# Altium integrated library Maxim Digital Potentiometers.IntLib: 1045 symbols (part 21 of 42)
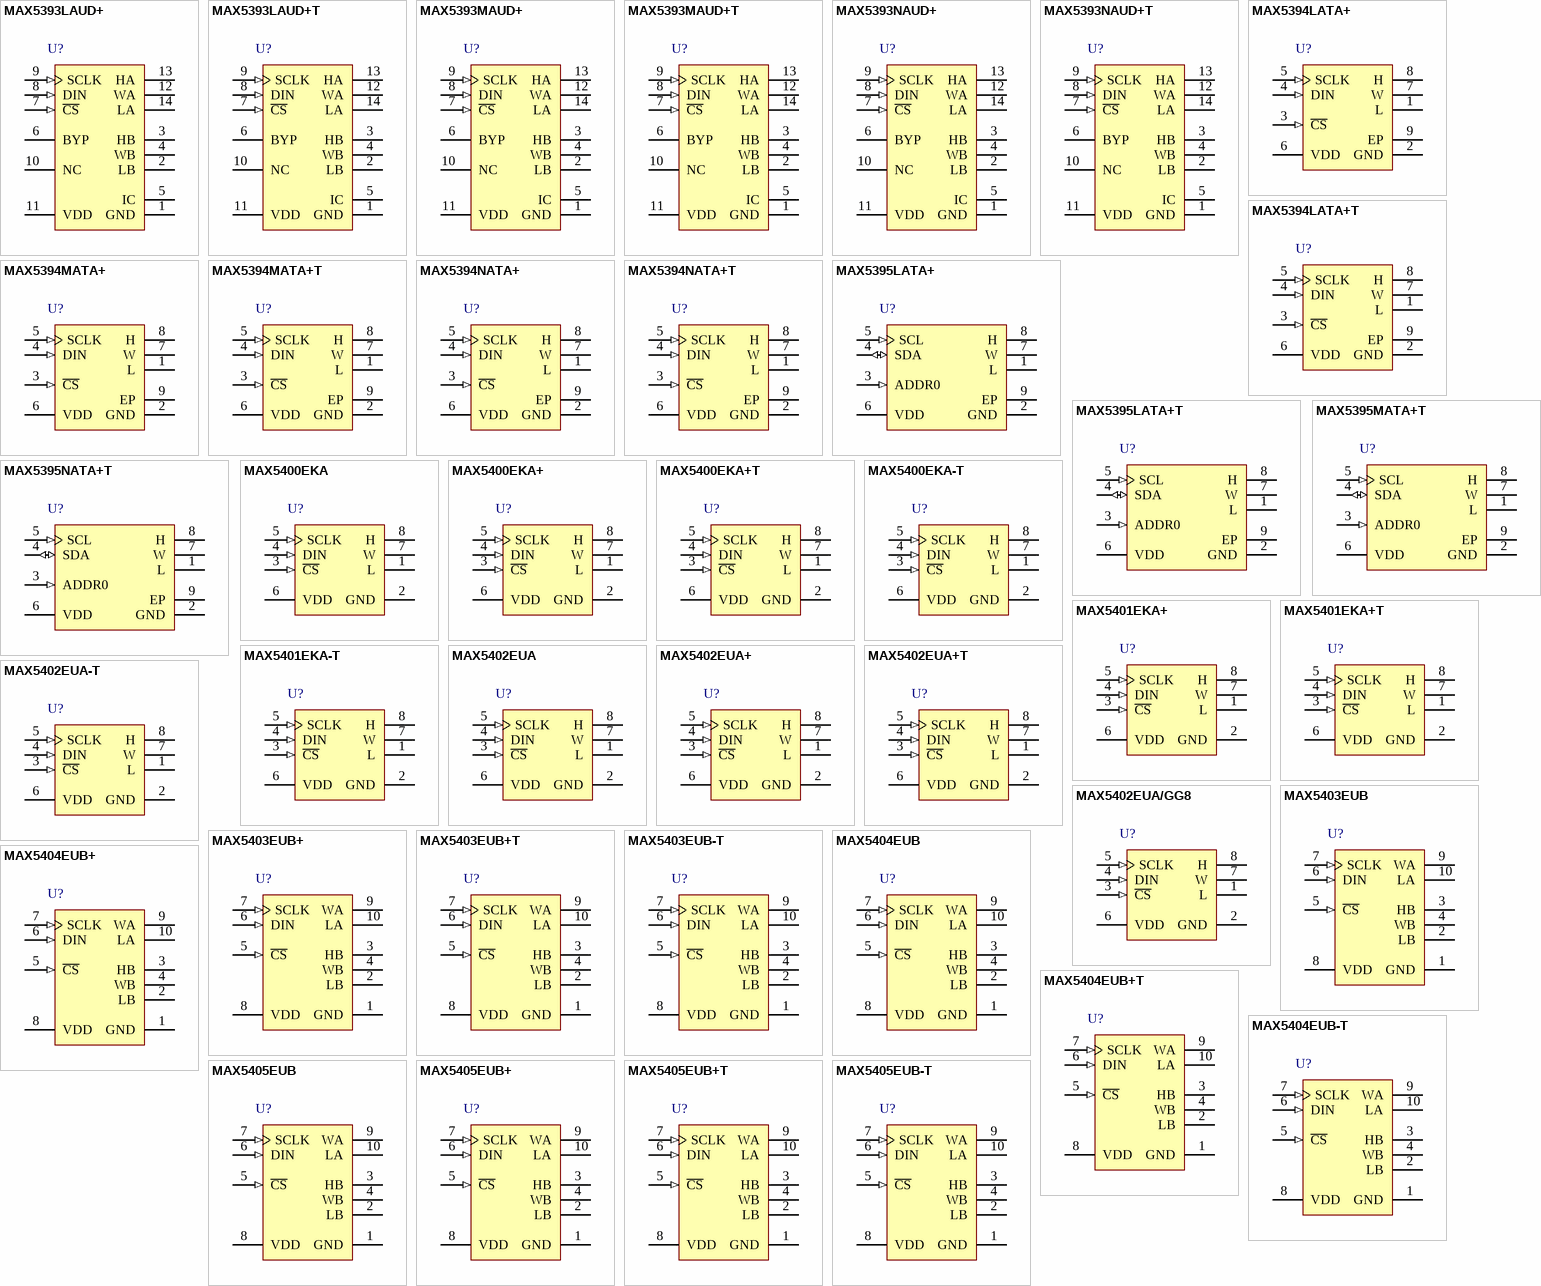
[diagram p49: symbols MAX5393LAUD+ to MAX5405EUB-T]

## MAX5393NAUD+T
designator U?
Dual, Low-Voltage Digital Potentiometer with 3-Wire Serial SPI Control Interface, Volatile, Linear Taper, 256 Steps, -40 to 125 degC, 14-pin TSSOP (U14+1), Pb-Free, Tape and Reel; PartNumber: MAX5393NAUD+T; DatasheetVersion: Rev. 2; PackageVersion: Rev. L, 07/2010; PackageReference: U14+1; PackageDescription: 14-Pin Thin Shrink Small-Outline Package (U14+1), Body 5 x 4.4 mm, Pitch 0.65 mm; Supplier 1: Digi-Key; Supplier Part Number 1: MAX5393NAUD+T-ND; Supplier 2: Mouser; Supplier Part Number 2: 700-MAX5393NAUD+T; Applications: Low-Voltage Battery Applications, Portable Consumer; Control Interface: 3-Wire Serial SPI; Mounting Technology: Surface Mount; Code_JEDEC: MO-153; ComponentLink1Description: Manufacturer URL; ComponentLink1URL: http://www.maximintegrated.com/; ComponentLink2Description: Datasheet; ComponentLink2URL: http://datasheets.maximintegrated.com/en/ds/MAX5391-MAX5393.pdf; ComponentLink3Description: Package Specification; ComponentLink3URL: http://pdfserv.maximintegrated.com/package_dwgs/21-0066.PDF
footprint MAXM-U14+1_N (SOP, 14-Leads, Body 5x4.4mm, Pitch 0.65mm, IPC Medium Density)
footprint MAXM-U14+1_L (SOP, 14-Leads, Body 5x4.4mm, Pitch 0.65mm, IPC High Density)
footprint MAXM-U14+1_M (SOP, 14-Leads, Body 5x4.4mm, Pitch 0.65mm, IPC Low Density)
pins: 1 GND (power) "Ground", 2 LB "Resistor B Low Terminal. The voltage at LB can be higher or lower than the voltage at HB. Current can flow into or out of LB.", 3 HB "Resistor B High Terminal. The voltage at HB can be higher or lower than the voltage at LB. Current can flow into or out of HB.", 4 WB "Resistor B Wiper Terminal", 5 IC (power) "Internally Connected. Connect to GND.", 6 BYP "Internal Power-Supply Bypass. For additional charge-pump filtering, bypass to GND with a capacitor close to the device.", 7 ~{CS} (in) "Active-Low Chip-Select Input", 8 DIN (in) "Serial-Interface Data Input", 9 SCLK (in) "Serial-Interface Clock Input", 10 NC "No Connection. Not internally connected.", 11 VDD (power) "Power-Supply Input. Bypass VDD to GND with a 0.1uF capacitor close to the device.", 12 WA "Resistor A Wiper Terminal", 13 HA "Resistor A High Terminal. The voltage at HA can be higher or lower than the voltage at LA. Current can flow into or out of HA.", 14 LA "Resistor A Low Terminal. The voltage at LA can be higher or lower than the voltage at HA. Current can flow into or out of LA."

## MAX5394LATA+
designator U?
Single, Low-Voltage Digital Potentiometer with 3-Wire Serial SPI Control Interface, Volatile, Linear Taper, 256 Steps, -40 to 125 degC, 8-pin TDFN-EP (T822+2), Pb-Free; PartNumber: MAX5394LATA+; DatasheetVersion: Rev. 1; PackageVersion: Rev. G, 03/2012; PackageReference: T822+2; PackageDescription: 8-Pin Plastic Very Very Thin Dual Flatpack No Leads, Exposed Pad (T822+2), Body 2 x 2 mm, Pitch 0.5 mm; Supplier 1: Mouser; Supplier Part Number 1: N/A; Applications: Low-Voltage Battery Applications; Control Interface: 3-Wire Serial SPI; Mounting Technology: Surface Mount; Code_JEDEC: MO229; ComponentLink1Description: Manufacturer URL; ComponentLink1URL: http://www.maximintegrated.com/; ComponentLink2Description: Datasheet; ComponentLink2URL: http://datasheets.maximintegrated.com/en/ds/MAX5394.pdf; ComponentLink3Description: Package Specification; ComponentLink3URL: http://pdfserv.maximintegrated.com/package_dwgs/21-0168.PDF
footprint MAXM-T822+2_N (SON, 8-Leads, Body 2x2mm, Pitch 0.5mm, Thermal Pad 0.8X1.38mm, IPC Medium Density)
footprint MAXM-T822+2_L (SON, 8-Leads, Body 2x2mm, Pitch 0.5mm, Thermal Pad 0.8X1.38mm, IPC High Density)
footprint MAXM-T822+2_M (SON, 8-Leads, Body 2x2mm, Pitch 0.5mm, Thermal Pad 0.8X1.38mm, IPC Low Density)
pins: 1 L "Low Terminal. The voltage at L can be greater than or less than the voltage at H. Current can flow into or out of L.", 2 GND (power) "Ground", 3 ~{CS} (in) "Active-Low Chip-Select Digital Input", 4 DIN (in) "Serial-Interface Data Input", 5 SCLK (in) "Serial-Interface Clock Input", 6 VDD (power) "Power Supply", 7 W "Wiper Terminal", 8 H "High Terminal. The voltage at H can be greater than or less than the voltage at L. Current can flow into or out of H.", 9 EP (power) "Exposed Pad. Internally connected to GND. Connected to ground."

## MAX5394LATA+T
designator U?
Single Low-Voltage Digital Potentiometer with 3-Wire Serial SPI Control Interface, Volatile, Linear Taper, 256 Steps, -40 to 125 degC, 8-pin TDFN-EP (T822+2), Pb-Free, Tape and Reel; PartNumber: MAX5394LATA+T; DatasheetVersion: Rev. 1; PackageVersion: Rev. G, 03/2012; PackageReference: T822+2; PackageDescription: 8-Pin Plastic Very Very Thin Dual Flatpack No Leads, Exposed Pad (T822+2), Body 2 x 2 mm, Pitch 0.5 mm; Supplier 1: Digi-Key; Supplier Part Number 1: MAX5394LATA+T-ND; Supplier 2: Mouser; Supplier Part Number 2: 700-MAX5394LATA+T; Applications: Low-Voltage Battery Applications; Control Interface: 3-Wire Serial SPI; Mounting Technology: Surface Mount; Code_JEDEC: MO229; ComponentLink1Description: Manufacturer URL; ComponentLink1URL: http://www.maximintegrated.com/; ComponentLink2Description: Datasheet; ComponentLink2URL: http://datasheets.maximintegrated.com/en/ds/MAX5394.pdf; ComponentLink3Description: Package Specification; ComponentLink3URL: http://pdfserv.maximintegrated.com/package_dwgs/21-0168.PDF
footprint MAXM-T822+2_N (SON, 8-Leads, Body 2x2mm, Pitch 0.5mm, Thermal Pad 0.8X1.38mm, IPC Medium Density)
footprint MAXM-T822+2_L (SON, 8-Leads, Body 2x2mm, Pitch 0.5mm, Thermal Pad 0.8X1.38mm, IPC High Density)
footprint MAXM-T822+2_M (SON, 8-Leads, Body 2x2mm, Pitch 0.5mm, Thermal Pad 0.8X1.38mm, IPC Low Density)
pins: 1 L "Low Terminal. The voltage at L can be greater than or less than the voltage at H. Current can flow into or out of L.", 2 GND (power) "Ground", 3 ~{CS} (in) "Active-Low Chip-Select Digital Input", 4 DIN (in) "Serial-Interface Data Input", 5 SCLK (in) "Serial-Interface Clock Input", 6 VDD (power) "Power Supply", 7 W "Wiper Terminal", 8 H "High Terminal. The voltage at H can be greater than or less than the voltage at L. Current can flow into or out of H.", 9 EP (power) "Exposed Pad. Internally connected to GND. Connected to ground."

## MAX5394MATA+
designator U?
Single Low-Voltage Digital Potentiometer with 3-Wire Serial SPI Control Interface, Volatile, Linear Taper, 256 Steps, -40 to 125 degC, 8-pin TDFN-EP (T822+2), Pb-Free; PartNumber: MAX5394MATA+; DatasheetVersion: Rev. 1; PackageVersion: Rev. G, 03/2012; PackageReference: T822+2; PackageDescription: 8-Pin Plastic Very Very Thin Dual Flatpack No Leads, Exposed Pad (T822+2), Body 2 x 2 mm, Pitch 0.5 mm; Supplier 1: Mouser; Supplier Part Number 1: N/A; Applications: Low-Voltage Battery Applications; Control Interface: 3-Wire Serial SPI; Mounting Technology: Surface Mount; Code_JEDEC: MO229; ComponentLink1Description: Manufacturer URL; ComponentLink1URL: http://www.maximintegrated.com/; ComponentLink2Description: Datasheet; ComponentLink2URL: http://datasheets.maximintegrated.com/en/ds/MAX5394.pdf; ComponentLink3Description: Package Specification; ComponentLink3URL: http://pdfserv.maximintegrated.com/package_dwgs/21-0168.PDF
footprint MAXM-T822+2_N (SON, 8-Leads, Body 2x2mm, Pitch 0.5mm, Thermal Pad 0.8X1.38mm, IPC Medium Density)
footprint MAXM-T822+2_L (SON, 8-Leads, Body 2x2mm, Pitch 0.5mm, Thermal Pad 0.8X1.38mm, IPC High Density)
footprint MAXM-T822+2_M (SON, 8-Leads, Body 2x2mm, Pitch 0.5mm, Thermal Pad 0.8X1.38mm, IPC Low Density)
pins: 1 L "Low Terminal. The voltage at L can be greater than or less than the voltage at H. Current can flow into or out of L.", 2 GND (power) "Ground", 3 ~{CS} (in) "Active-Low Chip-Select Digital Input", 4 DIN (in) "Serial-Interface Data Input", 5 SCLK (in) "Serial-Interface Clock Input", 6 VDD (power) "Power Supply", 7 W "Wiper Terminal", 8 H "High Terminal. The voltage at H can be greater than or less than the voltage at L. Current can flow into or out of H.", 9 EP (power) "Exposed Pad. Internally connected to GND. Connected to ground."

## MAX5394MATA+T
designator U?
Single Low-Voltage Digital Potentiometer with 3-Wire Serial SPI Control Interface, Volatile, Linear Taper, 256 Steps, -40 to 125 degC, 8-pin TDFN-EP (T822+2), Pb-Free, Tape and Reel; PartNumber: MAX5394MATA+T; DatasheetVersion: Rev. 1; PackageVersion: Rev. G, 03/2012; PackageReference: T822+2; PackageDescription: 8-Pin Plastic Very Very Thin Dual Flatpack No Leads, Exposed Pad (T822+2), Body 2 x 2 mm, Pitch 0.5 mm; Supplier 1: Digi-Key; Supplier Part Number 1: MAX5394MATA+T-ND; Supplier 2: Mouser; Supplier Part Number 2: 700-MAX5394MATA+T; Applications: Low-Voltage Battery Applications; Control Interface: 3-Wire Serial SPI; Mounting Technology: Surface Mount; Code_JEDEC: MO229; ComponentLink1Description: Manufacturer URL; ComponentLink1URL: http://www.maximintegrated.com/; ComponentLink2Description: Datasheet; ComponentLink2URL: http://datasheets.maximintegrated.com/en/ds/MAX5394.pdf; ComponentLink3Description: Package Specification; ComponentLink3URL: http://pdfserv.maximintegrated.com/package_dwgs/21-0168.PDF
footprint MAXM-T822+2_N (SON, 8-Leads, Body 2x2mm, Pitch 0.5mm, Thermal Pad 0.8X1.38mm, IPC Medium Density)
footprint MAXM-T822+2_L (SON, 8-Leads, Body 2x2mm, Pitch 0.5mm, Thermal Pad 0.8X1.38mm, IPC High Density)
footprint MAXM-T822+2_M (SON, 8-Leads, Body 2x2mm, Pitch 0.5mm, Thermal Pad 0.8X1.38mm, IPC Low Density)
pins: 1 L "Low Terminal. The voltage at L can be greater than or less than the voltage at H. Current can flow into or out of L.", 2 GND (power) "Ground", 3 ~{CS} (in) "Active-Low Chip-Select Digital Input", 4 DIN (in) "Serial-Interface Data Input", 5 SCLK (in) "Serial-Interface Clock Input", 6 VDD (power) "Power Supply", 7 W "Wiper Terminal", 8 H "High Terminal. The voltage at H can be greater than or less than the voltage at L. Current can flow into or out of H.", 9 EP (power) "Exposed Pad. Internally connected to GND. Connected to ground."

## MAX5394NATA+
designator U?
Single Low-Voltage Digital Potentiometer with 3-Wire Serial SPI Control Interface, Volatile, Linear Taper, 256 Steps, -40 to 125 degC, 8-pin TDFN-EP (T822+2), Pb-Free; PartNumber: MAX5394NATA+; DatasheetVersion: Rev. 1; PackageVersion: Rev. G, 03/2012; PackageReference: T822+2; PackageDescription: 8-Pin Plastic Very Very Thin Dual Flatpack No Leads, Exposed Pad (T822+2), Body 2 x 2 mm, Pitch 0.5 mm; Supplier 1: Mouser; Supplier Part Number 1: N/A; Applications: Low-Voltage Battery Applications; Control Interface: 3-Wire Serial SPI; Mounting Technology: Surface Mount; Code_JEDEC: MO229; ComponentLink1Description: Manufacturer URL; ComponentLink1URL: http://www.maximintegrated.com/; ComponentLink2Description: Datasheet; ComponentLink2URL: http://datasheets.maximintegrated.com/en/ds/MAX5394.pdf; ComponentLink3Description: Package Specification; ComponentLink3URL: http://pdfserv.maximintegrated.com/package_dwgs/21-0168.PDF
footprint MAXM-T822+2_N (SON, 8-Leads, Body 2x2mm, Pitch 0.5mm, Thermal Pad 0.8X1.38mm, IPC Medium Density)
footprint MAXM-T822+2_L (SON, 8-Leads, Body 2x2mm, Pitch 0.5mm, Thermal Pad 0.8X1.38mm, IPC High Density)
footprint MAXM-T822+2_M (SON, 8-Leads, Body 2x2mm, Pitch 0.5mm, Thermal Pad 0.8X1.38mm, IPC Low Density)
pins: 1 L "Low Terminal. The voltage at L can be greater than or less than the voltage at H. Current can flow into or out of L.", 2 GND (power) "Ground", 3 ~{CS} (in) "Active-Low Chip-Select Digital Input", 4 DIN (in) "Serial-Interface Data Input", 5 SCLK (in) "Serial-Interface Clock Input", 6 VDD (power) "Power Supply", 7 W "Wiper Terminal", 8 H "High Terminal. The voltage at H can be greater than or less than the voltage at L. Current can flow into or out of H.", 9 EP (power) "Exposed Pad. Internally connected to GND. Connected to ground."

## MAX5394NATA+T
designator U?
Single Low-Voltage Digital Potentiometer with 3-Wire Serial SPI Control Interface, Volatile, Linear Taper, 256 Steps, -40 to 125 degC, 8-pin TDFN-EP (T822+2), Pb-Free, Tape and Reel; PartNumber: MAX5394NATA+T; DatasheetVersion: Rev. 1; PackageVersion: Rev. G, 03/2012; PackageReference: T822+2; PackageDescription: 8-Pin Plastic Very Very Thin Dual Flatpack No Leads, Exposed Pad (T822+2), Body 2 x 2 mm, Pitch 0.5 mm; Supplier 1: Digi-Key; Supplier Part Number 1: MAX5394NATA+T-ND; Supplier 2: Mouser; Supplier Part Number 2: 700-MAX5394NATA+T; Applications: Low-Voltage Battery Applications; Control Interface: 3-Wire Serial SPI; Mounting Technology: Surface Mount; Code_JEDEC: MO229; ComponentLink1Description: Manufacturer URL; ComponentLink1URL: http://www.maximintegrated.com/; ComponentLink2Description: Datasheet; ComponentLink2URL: http://datasheets.maximintegrated.com/en/ds/MAX5394.pdf; ComponentLink3Description: Package Specification; ComponentLink3URL: http://pdfserv.maximintegrated.com/package_dwgs/21-0168.PDF
footprint MAXM-T822+2_N (SON, 8-Leads, Body 2x2mm, Pitch 0.5mm, Thermal Pad 0.8X1.38mm, IPC Medium Density)
footprint MAXM-T822+2_L (SON, 8-Leads, Body 2x2mm, Pitch 0.5mm, Thermal Pad 0.8X1.38mm, IPC High Density)
footprint MAXM-T822+2_M (SON, 8-Leads, Body 2x2mm, Pitch 0.5mm, Thermal Pad 0.8X1.38mm, IPC Low Density)
pins: 1 L "Low Terminal. The voltage at L can be greater than or less than the voltage at H. Current can flow into or out of L.", 2 GND (power) "Ground", 3 ~{CS} (in) "Active-Low Chip-Select Digital Input", 4 DIN (in) "Serial-Interface Data Input", 5 SCLK (in) "Serial-Interface Clock Input", 6 VDD (power) "Power Supply", 7 W "Wiper Terminal", 8 H "High Terminal. The voltage at H can be greater than or less than the voltage at L. Current can flow into or out of H.", 9 EP (power) "Exposed Pad. Internally connected to GND. Connected to ground."

## MAX5395LATA+
designator U?
Single, Low-Voltage Digital Potentiometer with I2C Control Interface, Volatile, Linear Taper, 256 Steps, -40 to 125 degC, 8-pin TDFN-EP (T822+2), Pb-Free; PartNumber: MAX5395LATA+; DatasheetVersion: Rev. 1; PackageVersion: Rev. G, 03/2012; PackageReference: T822+2; PackageDescription: 8-Pin Plastic Very Very Thin Dual Flatpack No Leads, Exposed Pad (T822+2), Body 2 x 2 mm, Pitch 0.5 mm; Supplier 1: Mouser; Supplier Part Number 1: N/A; Applications: Low-Voltage Battery Applications; Control Interface: I2C; Mounting Technology: Surface Mount; Code_JEDEC: MO229; ComponentLink1Description: Manufacturer URL; ComponentLink1URL: http://www.maximintegrated.com/; ComponentLink2Description: Datasheet; ComponentLink2URL: http://datasheets.maximintegrated.com/en/ds/MAX5395.pdf; ComponentLink3Description: Package Specification; ComponentLink3URL: http://pdfserv.maximintegrated.com/package_dwgs/21-0168.PDF
footprint MAXM-T822+2_N (SON, 8-Leads, Body 2x2mm, Pitch 0.5mm, Thermal Pad 0.8X1.38mm, IPC Medium Density)
footprint MAXM-T822+2_L (SON, 8-Leads, Body 2x2mm, Pitch 0.5mm, Thermal Pad 0.8X1.38mm, IPC High Density)
footprint MAXM-T822+2_M (SON, 8-Leads, Body 2x2mm, Pitch 0.5mm, Thermal Pad 0.8X1.38mm, IPC Low Density)
pins: 1 L "Low Terminal. The voltage at L can be greater than or less than the voltage at H. Current can flow into or out of L.", 2 GND (power) "Ground", 3 ADDR0 (in) "Address Input 0. Connected to VDD, GND, or open.", 4 SDA (io) "I2C Serial Data Input", 5 SCL (in) "I2C Clock Input", 6 VDD (power) "Power Supply", 7 W "Wiper Terminal", 8 H "High Terminal. The voltage at H can be greater than or less than the voltage at L. Current can flow into or out of H.", 9 EP (power) "Exposed Pad. Internally connected to GND. Connect to ground."

## MAX5395LATA+T
designator U?
Single, Low-Voltage Digital Potentiometer with I2C Control Interface, Volatile, Linear Taper, 256 Steps, -40 to 125 degC, 8-pin TDFN-EP (T822+2), Pb-Free, Tape and Reel; PartNumber: MAX5395LATA+T; DatasheetVersion: Rev. 1; PackageVersion: Rev. G, 03/2012; PackageReference: T822+2; PackageDescription: 8-Pin Plastic Very Very Thin Dual Flatpack No Leads, Exposed Pad (T822+2), Body 2 x 2 mm, Pitch 0.5 mm; Supplier 1: Digi-Key; Supplier Part Number 1: MAX5395LATA+T-ND; Supplier 2: Mouser; Supplier Part Number 2: 700-MAX5395LATA+T; Applications: Low-Voltage Battery Applications; Control Interface: I2C; Mounting Technology: Surface Mount; Code_JEDEC: MO229; ComponentLink1Description: Manufacturer URL; ComponentLink1URL: http://www.maximintegrated.com/; ComponentLink2Description: Datasheet; ComponentLink2URL: http://datasheets.maximintegrated.com/en/ds/MAX5395.pdf; ComponentLink3Description: Package Specification; ComponentLink3URL: http://pdfserv.maximintegrated.com/package_dwgs/21-0168.PDF
footprint MAXM-T822+2_N (SON, 8-Leads, Body 2x2mm, Pitch 0.5mm, Thermal Pad 0.8X1.38mm, IPC Medium Density)
footprint MAXM-T822+2_L (SON, 8-Leads, Body 2x2mm, Pitch 0.5mm, Thermal Pad 0.8X1.38mm, IPC High Density)
footprint MAXM-T822+2_M (SON, 8-Leads, Body 2x2mm, Pitch 0.5mm, Thermal Pad 0.8X1.38mm, IPC Low Density)
pins: 1 L "Low Terminal. The voltage at L can be greater than or less than the voltage at H. Current can flow into or out of L.", 2 GND (power) "Ground", 3 ADDR0 (in) "Address Input 0. Connected to VDD, GND, or open.", 4 SDA (io) "I2C Serial Data Input", 5 SCL (in) "I2C Clock Input", 6 VDD (power) "Power Supply", 7 W "Wiper Terminal", 8 H "High Terminal. The voltage at H can be greater than or less than the voltage at L. Current can flow into or out of H.", 9 EP (power) "Exposed Pad. Internally connected to GND. Connect to ground."

## MAX5395MATA+T
designator U?
Single, Low-Voltage Digital Potentiometer with I2C Control Interface, Volatile, Linear Taper, 256 Steps, -40 to 125 degC, 8-pin TDFN-EP (T822+2), Pb-Free, Tape and Reel; PartNumber: MAX5395MATA+T; DatasheetVersion: Rev. 1; PackageVersion: Rev. G, 03/2012; PackageReference: T822+2; PackageDescription: 8-Pin Plastic Very Very Thin Dual Flatpack No Leads, Exposed Pad (T822+2), Body 2 x 2 mm, Pitch 0.5 mm; Supplier 1: Digi-Key; Supplier Part Number 1: MAX5395MATA+T-ND; Supplier 2: Mouser; Supplier Part Number 2: 700-MAX5395MATA+T; Applications: Low-Voltage Battery Applications; Control Interface: I2C; Mounting Technology: Surface Mount; Code_JEDEC: MO229; ComponentLink1Description: Manufacturer URL; ComponentLink1URL: http://www.maximintegrated.com/; ComponentLink2Description: Datasheet; ComponentLink2URL: http://datasheets.maximintegrated.com/en/ds/MAX5395.pdf; ComponentLink3Description: Package Specification; ComponentLink3URL: http://pdfserv.maximintegrated.com/package_dwgs/21-0168.PDF
footprint MAXM-T822+2_N (SON, 8-Leads, Body 2x2mm, Pitch 0.5mm, Thermal Pad 0.8X1.38mm, IPC Medium Density)
footprint MAXM-T822+2_L (SON, 8-Leads, Body 2x2mm, Pitch 0.5mm, Thermal Pad 0.8X1.38mm, IPC High Density)
footprint MAXM-T822+2_M (SON, 8-Leads, Body 2x2mm, Pitch 0.5mm, Thermal Pad 0.8X1.38mm, IPC Low Density)
pins: 1 L "Low Terminal. The voltage at L can be greater than or less than the voltage at H. Current can flow into or out of L.", 2 GND (power) "Ground", 3 ADDR0 (in) "Address Input 0. Connected to VDD, GND, or open.", 4 SDA (io) "I2C Serial Data Input", 5 SCL (in) "I2C Clock Input", 6 VDD (power) "Power Supply", 7 W "Wiper Terminal", 8 H "High Terminal. The voltage at H can be greater than or less than the voltage at L. Current can flow into or out of H.", 9 EP (power) "Exposed Pad. Internally connected to GND. Connect to ground."

## MAX5395NATA+T
designator U?
Single, Low-Voltage Digital Potentiometer with I2C Control Interface, Volatile, Linear Taper, 256 Steps, -40 to 125 degC, 8-pin TDFN-EP (T822+2), Pb-Free, Tape and Reel; PartNumber: MAX5395NATA+T; DatasheetVersion: Rev. 1; PackageVersion: Rev. G, 03/2012; PackageReference: T822+2; PackageDescription: 8-Pin Plastic Very Very Thin Dual Flatpack No Leads, Exposed Pad (T822+2), Body 2 x 2 mm, Pitch 0.5 mm; Supplier 1: Digi-Key; Supplier Part Number 1: MAX5395NATA+T-ND; Supplier 2: Mouser; Supplier Part Number 2: 700-MAX5395NATA+T; Applications: Low-Voltage Battery Applications; Control Interface: I2C; Mounting Technology: Surface Mount; Code_JEDEC: MO229; ComponentLink1Description: Manufacturer URL; ComponentLink1URL: http://www.maximintegrated.com/; ComponentLink2Description: Datasheet; ComponentLink2URL: http://datasheets.maximintegrated.com/en/ds/MAX5395.pdf; ComponentLink3Description: Package Specification; ComponentLink3URL: http://pdfserv.maximintegrated.com/package_dwgs/21-0168.PDF
footprint MAXM-T822+2_N (SON, 8-Leads, Body 2x2mm, Pitch 0.5mm, Thermal Pad 0.8X1.38mm, IPC Medium Density)
footprint MAXM-T822+2_L (SON, 8-Leads, Body 2x2mm, Pitch 0.5mm, Thermal Pad 0.8X1.38mm, IPC High Density)
footprint MAXM-T822+2_M (SON, 8-Leads, Body 2x2mm, Pitch 0.5mm, Thermal Pad 0.8X1.38mm, IPC Low Density)
pins: 1 L "Low Terminal. The voltage at L can be greater than or less than the voltage at H. Current can flow into or out of L.", 2 GND (power) "Ground", 3 ADDR0 (in) "Address Input 0. Connected to VDD, GND, or open.", 4 SDA (io) "I2C Serial Data Input", 5 SCL (in) "I2C Clock Input", 6 VDD (power) "Power Supply", 7 W "Wiper Terminal", 8 H "High Terminal. The voltage at H can be greater than or less than the voltage at L. Current can flow into or out of H.", 9 EP (power) "Exposed Pad. Internally connected to GND. Connect to ground."

## MAX5400EKA
designator U?
SOT-PoT, Low-Drift Digital Potentiometers in SOT23 with 3-Wire Serial Control Interface, Volatile, Linear Taper, 256 Steps, -40 to 85 degC, 8-pin SOT (K8SN-1); PartNumber: MAX5400EKA; DatasheetVersion: Rev. 0; PackageVersion: Rev. J, 10/2009; PackageReference: K8SN-1; PackageDescription: 8-Pin Small-Outline Transistor Package (K8SN-1), Body 2.9 x 1.625 mm, Pitch 0.65 mm; Supplier 1: Mouser; Supplier Part Number 1: N/A; Control Interface: 3-Wire Serial; Mounting Technology: Surface Mount; Code_JEDEC: MO178; ComponentLink1Description: Manufacturer URL; ComponentLink1URL: http://www.maximintegrated.com/; ComponentLink2Description: Datasheet; ComponentLink2URL: http://datasheets.maximintegrated.com/en/ds/MAX5400-MAX5401.pdf; ComponentLink3Description: Package Specification; ComponentLink3URL: http://pdfserv.maximintegrated.com/package_dwgs/21-0078.PDF
footprint MAXM-K8SN-1_V (SOT23, 8-Leads, Body 2.9x1.625mm, Pitch 0.65mm)
pins: 1 L "Low Terminal of Resistor", 2 GND (power) "Ground", 3 ~{CS} (in) "Chip Select Input", 4 DIN (in) "Serial Data Input", 5 SCLK (in) "Clock Input", 6 VDD (power) "Power Supply. Bypass with a 0.1uF capacitor to GND.", 7 W "Wiper Terminal", 8 H "High Terminal of Resistor"

## MAX5400EKA+
designator U?
SOT-PoT, Low-Drift Digital Potentiometers in SOT23 with 3-Wire Serial Control Interface, Volatile, Linear Taper, 256 Steps, -40 to 85 degC, 8-pin SOT (K8SN+1), Pb-Free; PartNumber: MAX5400EKA+; DatasheetVersion: Rev. 0; PackageVersion: Rev. J, 10/2009; PackageReference: K8SN+1; PackageDescription: 8-Pin Small-Outline Transistor Package (K8SN+1), Body 2.9 x 1.625 mm, Pitch 0.65 mm; Supplier 1: Mouser; Supplier Part Number 1: N/A; Control Interface: 3-Wire Serial; Mounting Technology: Surface Mount; Code_JEDEC: MO178; ComponentLink1Description: Manufacturer URL; ComponentLink1URL: http://www.maximintegrated.com/; ComponentLink2Description: Datasheet; ComponentLink2URL: http://datasheets.maximintegrated.com/en/ds/MAX5400-MAX5401.pdf; ComponentLink3Description: Package Specification; ComponentLink3URL: http://pdfserv.maximintegrated.com/package_dwgs/21-0078.PDF
footprint MAXM-K8SN+1_V (SOT23, 8-Leads, Body 2.9x1.625mm, Pitch 0.65 mm)
pins: 1 L "Low Terminal of Resistor", 2 GND (power) "Ground", 3 ~{CS} (in) "Chip Select Input", 4 DIN (in) "Serial Data Input", 5 SCLK (in) "Clock Input", 6 VDD (power) "Power Supply. Bypass with a 0.1uF capacitor to GND.", 7 W "Wiper Terminal", 8 H "High Terminal of Resistor"

## MAX5400EKA+T
designator U?
SOT-PoT, Low-Drift Digital Potentiometers in SOT23 with 3-Wire Serial Control Interface, Volatile, Linear Taper, 256 Steps, -40 to 85 degC, 8-pin SOT (K8SN+1), Pb-Free, Tape and Reel; PartNumber: MAX5400EKA+T; DatasheetVersion: Rev. 0; PackageVersion: Rev. J, 10/2009; PackageReference: K8SN+1; PackageDescription: 8-Pin Small-Outline Transistor Package (K8SN+1), Body 2.9 x 1.625 mm, Pitch 0.65 mm; Supplier 1: Digi-Key; Supplier Part Number 1: MAX5400EKA+TTR-ND; Supplier 2: Digi-Key; Supplier Part Number 2: MAX5400EKA+TCT-ND; Supplier 3: Digi-Key; Supplier Part Number 3: MAX5400EKA+TDKR-ND; Supplier 4: Farnell; Supplier Part Number 4: 2071867; Supplier 5: Newark; Supplier Part Number 5: 68K9443; Supplier 6: Mouser; Supplier Part Number 6: 700-MAX5400EKAT; Control Interface: 3-Wire Serial; Mounting Technology: Surface Mount; Code_JEDEC: MO178; ComponentLink1Description: Manufacturer URL; ComponentLink1URL: http://www.maximintegrated.com/; ComponentLink2Description: Datasheet; ComponentLink2URL: http://datasheets.maximintegrated.com/en/ds/MAX5400-MAX5401.pdf; ComponentLink3Description: Package Specification; ComponentLink3URL: http://pdfserv.maximintegrated.com/package_dwgs/21-0078.PDF
footprint MAXM-K8SN+1_V (SOT23, 8-Leads, Body 2.9x1.625mm, Pitch 0.65 mm)
pins: 1 L "Low Terminal of Resistor", 2 GND (power) "Ground", 3 ~{CS} (in) "Chip Select Input", 4 DIN (in) "Serial Data Input", 5 SCLK (in) "Clock Input", 6 VDD (power) "Power Supply. Bypass with a 0.1uF capacitor to GND.", 7 W "Wiper Terminal", 8 H "High Terminal of Resistor"

## MAX5400EKA-T
designator U?
SOT-PoT, Low-Drift Digital Potentiometers in SOT23 with 3-Wire Serial Control Interface, Volatile, Linear Taper, 256 Steps, -40 to 85 degC, 8-pin SOT (K8SN-1), Tape and Reel; PartNumber: MAX5400EKA-T; DatasheetVersion: Rev. 0; PackageVersion: Rev. J, 10/2009; PackageReference: K8SN-1; PackageDescription: 8-Pin Small-Outline Transistor Package (K8SN-1), Body 2.9 x 1.625 mm, Pitch 0.65 mm; Supplier 1: Mouser; Supplier Part Number 1: N/A; Control Interface: 3-Wire Serial; Mounting Technology: Surface Mount; Code_JEDEC: MO178; ComponentLink1Description: Manufacturer URL; ComponentLink1URL: http://www.maximintegrated.com/; ComponentLink2Description: Datasheet; ComponentLink2URL: http://datasheets.maximintegrated.com/en/ds/MAX5400-MAX5401.pdf; ComponentLink3Description: Package Specification; ComponentLink3URL: http://pdfserv.maximintegrated.com/package_dwgs/21-0078.PDF
footprint MAXM-K8SN-1_V (SOT23, 8-Leads, Body 2.9x1.625mm, Pitch 0.65mm)
pins: 1 L "Low Terminal of Resistor", 2 GND (power) "Ground", 3 ~{CS} (in) "Chip Select Input", 4 DIN (in) "Serial Data Input", 5 SCLK (in) "Clock Input", 6 VDD (power) "Power Supply. Bypass with a 0.1uF capacitor to GND.", 7 W "Wiper Terminal", 8 H "High Terminal of Resistor"

## MAX5401EKA+
designator U?
SOT-PoT, Low-Drift Digital Potentiometers in SOT23 with 3-Wire Serial Control Interface, Volatile, Linear Taper, 256 Steps, -40 to 85 degC, 8-pin SOT (K8SN+1), Pb-Free; PartNumber: MAX5401EKA+; DatasheetVersion: Rev. 0; PackageVersion: Rev. J, 10/2009; PackageReference: K8SN+1; PackageDescription: 8-Pin Small-Outline Transistor Package (K8SN+1), Body 2.9 x 1.625 mm, Pitch 0.65 mm; Supplier 1: Mouser; Supplier Part Number 1: N/A; Control Interface: 3-Wire Serial; Mounting Technology: Surface Mount; Code_JEDEC: MO178; ComponentLink1Description: Manufacturer URL; ComponentLink1URL: http://www.maximintegrated.com/; ComponentLink2Description: Datasheet; ComponentLink2URL: http://datasheets.maximintegrated.com/en/ds/MAX5400-MAX5401.pdf; ComponentLink3Description: Package Specification; ComponentLink3URL: http://pdfserv.maximintegrated.com/package_dwgs/21-0078.PDF
footprint MAXM-K8SN+1_V (SOT23, 8-Leads, Body 2.9x1.625mm, Pitch 0.65 mm)
pins: 1 L "Low Terminal of Resistor", 2 GND (power) "Ground", 3 ~{CS} (in) "Chip Select Input", 4 DIN (in) "Serial Data Input", 5 SCLK (in) "Clock Input", 6 VDD (power) "Power Supply. Bypass with a 0.1uF capacitor to GND.", 7 W "Wiper Terminal", 8 H "High Terminal of Resistor"

## MAX5401EKA+T
designator U?
SOT-PoT, Low-Drift Digital Potentiometers in SOT23 with 3-Wire Serial Control Interface, Volatile, Linear Taper, 256 Steps, -40 to 85 degC, 8-pin SOT (K8SN+1), Pb-Free, Tape and Reel; PartNumber: MAX5401EKA+T; DatasheetVersion: Rev. 0; PackageVersion: Rev. J, 10/2009; PackageReference: K8SN+1; PackageDescription: 8-Pin Small-Outline Transistor Package (K8SN+1), Body 2.9 x 1.625 mm, Pitch 0.65 mm; Supplier 1: Digi-Key; Supplier Part Number 1: MAX5401EKA+TTR-ND; Supplier 2: Digi-Key; Supplier Part Number 2: MAX5401EKA+TCT-ND; Supplier 3: Digi-Key; Supplier Part Number 3: MAX5401EKA+TDKR-ND; Supplier 4: Mouser; Supplier Part Number 4: 700-MAX5401EKAT; Control Interface: 3-Wire Serial; Mounting Technology: Surface Mount; Code_JEDEC: MO178; ComponentLink1Description: Manufacturer URL; ComponentLink1URL: http://www.maximintegrated.com/; ComponentLink2Description: Datasheet; ComponentLink2URL: http://datasheets.maximintegrated.com/en/ds/MAX5400-MAX5401.pdf; ComponentLink3Description: Package Specification; ComponentLink3URL: http://pdfserv.maximintegrated.com/package_dwgs/21-0078.PDF
footprint MAXM-K8SN+1_V (SOT23, 8-Leads, Body 2.9x1.625mm, Pitch 0.65 mm)
pins: 1 L "Low Terminal of Resistor", 2 GND (power) "Ground", 3 ~{CS} (in) "Chip Select Input", 4 DIN (in) "Serial Data Input", 5 SCLK (in) "Clock Input", 6 VDD (power) "Power Supply. Bypass with a 0.1uF capacitor to GND.", 7 W "Wiper Terminal", 8 H "High Terminal of Resistor"

## MAX5401EKA-T
designator U?
SOT-PoT, Low-Drift Digital Potentiometers in SOT23 with 3-Wire Serial Control Interface, Volatile, Linear Taper, 256 Steps, -40 to 85 degC, 8-pin SOT (K8SN-1), Tape and Reel; PartNumber: MAX5401EKA-T; DatasheetVersion: Rev. 0; PackageVersion: Rev. J, 10/2009; PackageReference: K8SN-1; PackageDescription: 8-Pin Small-Outline Transistor Package (K8SN-1), Body 2.9 x 1.625 mm, Pitch 0.65 mm; Supplier 1: Digi-Key; Supplier Part Number 1: MAX5401EKA-TTR-ND; Supplier 2: Digi-Key; Supplier Part Number 2: MAX5401EKA-TCT-ND; Supplier 3: Mouser; Supplier Part Number 3: N/A; Control Interface: 3-Wire Serial; Mounting Technology: Surface Mount; Code_JEDEC: MO178; ComponentLink1Description: Manufacturer URL; ComponentLink1URL: http://www.maximintegrated.com/; ComponentLink2Description: Datasheet; ComponentLink2URL: http://datasheets.maximintegrated.com/en/ds/MAX5400-MAX5401.pdf; ComponentLink3Description: Package Specification; ComponentLink3URL: http://pdfserv.maximintegrated.com/package_dwgs/21-0078.PDF
footprint MAXM-K8SN-1_V (SOT23, 8-Leads, Body 2.9x1.625mm, Pitch 0.65mm)
pins: 1 L "Low Terminal of Resistor", 2 GND (power) "Ground", 3 ~{CS} (in) "Chip Select Input", 4 DIN (in) "Serial Data Input", 5 SCLK (in) "Clock Input", 6 VDD (power) "Power Supply. Bypass with a 0.1uF capacitor to GND.", 7 W "Wiper Terminal", 8 H "High Terminal of Resistor"

## MAX5402EUA
designator U?
uPoT, Low-Drift, Digital Potentiometer with 3-Wire Serial Control Interface, Volatile, Linear Taper, 256 Steps, -40 to 85 degC, 8-pin uMAX (U8-1); PartNumber: MAX5402EUA; DatasheetVersion: Rev. 0; PackageVersion: Rev. L, 08/2009; PackageReference: U8-1; PackageDescription: 8-Pin Micro-MAX, Thin Shrink Small-Outline (U8-1), Body 3 x 3 mm, Pitch 0.65mm; Supplier 1: Digi-Key; Supplier Part Number 1: MAX5402EUA-ND; Supplier 2: Mouser; Supplier Part Number 2: N/A; Control Interface: 3-Wire Serial; Mounting Technology: Surface Mount; Code_JEDEC: MO-187; ComponentLink1Description: Manufacturer URL; ComponentLink1URL: http://www.maximintegrated.com/; ComponentLink2Description: Datasheet; ComponentLink2URL: http://datasheets.maximintegrated.com/en/ds/MAX5402.pdf; ComponentLink3Description: Package Specification; ComponentLink3URL: http://pdfserv.maximintegrated.com/package_dwgs/21-0036.PDF
footprint MAXM-U8-1_N (SOP, 8-Leads, Body 3x3mm, Pitch 0.65mm, IPC Medium Density)
footprint MAXM-U8-1_L (SOP, 8-Leads, Body 3x3mm, Pitch 0.65mm, IPC High Density)
footprint MAXM-U8-1_M (SOP, 8-Leads, Body 3x3mm, Pitch 0.65mm, IPC Low Density)
pins: 1 L "Low Terminal of Resistor", 2 GND (power) "Ground", 3 ~{CS} (in) "Chip Select Input", 4 DIN (in) "Serial Data Input", 5 SCLK (in) "Clock Input", 6 VDD (power) "Power Supply. Bypass with a 0.1uF capacitor to GND.", 7 W "Wiper Terminal", 8 H "High Terminal of Resistor"

## MAX5402EUA+
designator U?
uPoT, Low-Drift, Digital Potentiometer with 3-Wire Serial Control Interface, Volatile, Linear Taper, 256 Steps, -40 to 85 degC, 8-pin uMAX (U8+1), Pb-Free; PartNumber: MAX5402EUA+; DatasheetVersion: Rev. 0; PackageVersion: Rev. L, 08/2009; PackageReference: U8+1; PackageDescription: 8-Pin Micro-MAX, Thin Shrink Small-Outline (U8+1), Body 3 x 3 mm, Pitch 0.65 mm; Supplier 1: Digi-Key; Supplier Part Number 1: MAX5402EUA+-ND; Supplier 2: Farnell; Supplier Part Number 2: 1610113; Supplier 3: Newark; Supplier Part Number 3: 26R6487; Supplier 4: Mouser; Supplier Part Number 4: 700-MAX5402EUA; Control Interface: 3-Wire Serial; Mounting Technology: Surface Mount; Code_JEDEC: MO-187; ComponentLink1Description: Manufacturer URL; ComponentLink1URL: http://www.maximintegrated.com/; ComponentLink2Description: Datasheet; ComponentLink2URL: http://datasheets.maximintegrated.com/en/ds/MAX5402.pdf; ComponentLink3Description: Package Specification; ComponentLink3URL: http://pdfserv.maximintegrated.com/package_dwgs/21-0036.PDF
footprint MAXM-U8+1_N (SOP, 8-Leads, Body 3x3mm, Pitch 0.65mm, IPC Medium Density)
footprint MAXM-U8+1_L (SOP, 8-Leads, Body 3x3mm, Pitch 0.65mm, IPC High Density)
footprint MAXM-U8+1_M (SOP, 8-Leads, Body 3x3mm, Pitch 0.65mm, IPC Low Density)
pins: 1 L "Low Terminal of Resistor", 2 GND (power) "Ground", 3 ~{CS} (in) "Chip Select Input", 4 DIN (in) "Serial Data Input", 5 SCLK (in) "Clock Input", 6 VDD (power) "Power Supply. Bypass with a 0.1uF capacitor to GND.", 7 W "Wiper Terminal", 8 H "High Terminal of Resistor"

## MAX5402EUA+T
designator U?
uPoT, Low-Drift, Digital Potentiometer with 3-Wire Serial Control Interface, Volatile, Linear Taper, 256 Steps, -40 to 85 degC, 8-pin uMAX (U8+1), Pb-Free, Tape and Reel; PartNumber: MAX5402EUA+T; DatasheetVersion: Rev. 0; PackageVersion: Rev. L, 08/2009; PackageReference: U8+1; PackageDescription: 8-Pin Micro-MAX, Thin Shrink Small-Outline (U8+1), Body 3 x 3 mm, Pitch 0.65 mm; Supplier 1: Digi-Key; Supplier Part Number 1: MAX5402EUA+T-ND; Supplier 2: Farnell; Supplier Part Number 2: 1714864; Supplier 3: Mouser; Supplier Part Number 3: 700-MAX5402EUAT; Control Interface: 3-Wire Serial; Mounting Technology: Surface Mount; Code_JEDEC: MO-187; ComponentLink1Description: Manufacturer URL; ComponentLink1URL: http://www.maximintegrated.com/; ComponentLink2Description: Datasheet; ComponentLink2URL: http://datasheets.maximintegrated.com/en/ds/MAX5402.pdf; ComponentLink3Description: Package Specification; ComponentLink3URL: http://pdfserv.maximintegrated.com/package_dwgs/21-0036.PDF
footprint MAXM-U8+1_N (SOP, 8-Leads, Body 3x3mm, Pitch 0.65mm, IPC Medium Density)
footprint MAXM-U8+1_L (SOP, 8-Leads, Body 3x3mm, Pitch 0.65mm, IPC High Density)
footprint MAXM-U8+1_M (SOP, 8-Leads, Body 3x3mm, Pitch 0.65mm, IPC Low Density)
pins: 1 L "Low Terminal of Resistor", 2 GND (power) "Ground", 3 ~{CS} (in) "Chip Select Input", 4 DIN (in) "Serial Data Input", 5 SCLK (in) "Clock Input", 6 VDD (power) "Power Supply. Bypass with a 0.1uF capacitor to GND.", 7 W "Wiper Terminal", 8 H "High Terminal of Resistor"

## MAX5402EUA-T
designator U?
uPoT, Low-Drift, Digital Potentiometer with 3-Wire Serial Control Interface, Volatile, Linear Taper, 256 Steps, -40 to 85 degC, 8-pin uMAX (U8-1), Tape and Reel; PartNumber: MAX5402EUA-T; DatasheetVersion: Rev. 0; PackageVersion: Rev. L, 08/2009; PackageReference: U8-1; PackageDescription: 8-Pin Micro-MAX, Thin Shrink Small-Outline (U8-1), Body 3 x 3 mm, Pitch 0.65mm; Supplier 1: Mouser; Supplier Part Number 1: N/A; Control Interface: 3-Wire Serial; Mounting Technology: Surface Mount; Code_JEDEC: MO-187; ComponentLink1Description: Manufacturer URL; ComponentLink1URL: http://www.maximintegrated.com/; ComponentLink2Description: Datasheet; ComponentLink2URL: http://datasheets.maximintegrated.com/en/ds/MAX5402.pdf; ComponentLink3Description: Package Specification; ComponentLink3URL: http://pdfserv.maximintegrated.com/package_dwgs/21-0036.PDF
footprint MAXM-U8-1_N (SOP, 8-Leads, Body 3x3mm, Pitch 0.65mm, IPC Medium Density)
footprint MAXM-U8-1_L (SOP, 8-Leads, Body 3x3mm, Pitch 0.65mm, IPC High Density)
footprint MAXM-U8-1_M (SOP, 8-Leads, Body 3x3mm, Pitch 0.65mm, IPC Low Density)
pins: 1 L "Low Terminal of Resistor", 2 GND (power) "Ground", 3 ~{CS} (in) "Chip Select Input", 4 DIN (in) "Serial Data Input", 5 SCLK (in) "Clock Input", 6 VDD (power) "Power Supply. Bypass with a 0.1uF capacitor to GND.", 7 W "Wiper Terminal", 8 H "High Terminal of Resistor"

## MAX5402EUA/GG8
designator U?
uPoT, Low-Drift, Digital Potentiometer with 3-Wire Serial Control Interface, Volatile, Linear Taper, 256 Steps, -40 to 85 degC, 8-pin uMAX (U8-1); PartNumber: MAX5402EUA/GG8; DatasheetVersion: Rev. 0; PackageVersion: Rev. L, 08/2009; PackageReference: U8-1; PackageDescription: 8-Pin Micro-MAX, Thin Shrink Small-Outline (U8-1), Body 3 x 3 mm, Pitch 0.65mm; Supplier 1: Mouser; Supplier Part Number 1: N/A; Control Interface: 3-Wire Serial; Mounting Technology: Surface Mount; Code_JEDEC: MO-187; ComponentLink1Description: Manufacturer URL; ComponentLink1URL: http://www.maximintegrated.com/; ComponentLink2Description: Datasheet; ComponentLink2URL: http://datasheets.maximintegrated.com/en/ds/MAX5402.pdf; ComponentLink3Description: Package Specification; ComponentLink3URL: http://pdfserv.maximintegrated.com/package_dwgs/21-0036.PDF
footprint MAXM-U8-1_N (SOP, 8-Leads, Body 3x3mm, Pitch 0.65mm, IPC Medium Density)
footprint MAXM-U8-1_L (SOP, 8-Leads, Body 3x3mm, Pitch 0.65mm, IPC High Density)
footprint MAXM-U8-1_M (SOP, 8-Leads, Body 3x3mm, Pitch 0.65mm, IPC Low Density)
pins: 1 L "Low Terminal of Resistor", 2 GND (power) "Ground", 3 ~{CS} (in) "Chip Select Input", 4 DIN (in) "Serial Data Input", 5 SCLK (in) "Clock Input", 6 VDD (power) "Power Supply. Bypass with a 0.1uF capacitor to GND.", 7 W "Wiper Terminal", 8 H "High Terminal of Resistor"

## MAX5403EUB
designator U?
Dual, Low Drift, Digital Potentiometers in 10-uMAX with 3-Wire Serial SPI Control Interface, Volatile, Linear Taper, 256 Steps, -40 to 85 degC, 10-pin uMAX (U10CN-1); PartNumber: MAX5403EUB; DatasheetVersion: Rev. 2; PackageVersion: Rev. L, 07/2008; PackageReference: U10CN-1; PackageDescription: 10-Pin Micro-MAX, Thin Shrink Small-Outline (U10CN-1), Body 3 x 3 mm, Pitch 0.5 mm; Supplier 1: Digi-Key; Supplier Part Number 1: MAX5403EUB-ND; Supplier 2: Mouser; Supplier Part Number 2: N/A; Control Interface: 3-Wire Serial SPI; Mounting Technology: Surface Mount; Code_JEDEC: MO-187; ComponentLink1Description: Manufacturer URL; ComponentLink1URL: http://www.maximintegrated.com/; ComponentLink2Description: Datasheet; ComponentLink2URL: http://datasheets.maximintegrated.com/en/ds/MAX5403-MAX5405.pdf; ComponentLink3Description: Package Specification; ComponentLink3URL: http://pdfserv.maximintegrated.com/package_dwgs/21-0061.PDF
footprint MAXM-U10CN-1_N (SOP, 10-Leads, Body 3x3mm, Pitch 0.5mm, IPC Medium Density)
footprint MAXM-U10CN-1_L (SOP, 10-Leads, Body 3x3mm, Pitch 0.5mm, IPC High Density)
footprint MAXM-U10CN-1_M (SOP, 10-Leads, Body 3x3mm, Pitch 0.5mm, IPC Low Density)
pins: 1 GND (power) "Ground", 2 LB "Low Terminal of Resistor B", 3 HB "High Terminal of Resistor B", 4 WB "Wiper Terminal of Resistor B", 5 ~{CS} (in) "SPI Chip Select", 6 DIN (in) "SPI Serial Data Input", 7 SCLK (in) "SPI Clock Input", 8 VDD (power) "Power Supply, +2.7V to +5.5V. Connect a 0.1uF capacitor to GND.", 9 WA "Wiper Terminal of Resistor A", 10 LA "Low Terminal of Resistor A"

## MAX5403EUB+
designator U?
Dual, Low Drift, Digital Potentiometers in 10-uMAX with 3-Wire Serial SPI Control Interface, Volatile, Linear Taper, 256 Steps, -40 to 85 degC, 10-pin uMAX (U10CN+1), Pb-Free; PartNumber: MAX5403EUB+; DatasheetVersion: Rev. 2; PackageVersion: Rev. L, 07/2008; PackageReference: U10CN+1; PackageDescription: 10-Pin Micro-MAX, Thin Shrink Small-Outline (U10CN+1), Body 3 x 3 mm, Pitch 0.5 mm; Supplier 1: Digi-Key; Supplier Part Number 1: MAX5403EUB+-ND; Supplier 2: Farnell; Supplier Part Number 2: 1557497; Supplier 3: Mouser; Supplier Part Number 3: 700-MAX5403EUB; Control Interface: 3-Wire Serial SPI; Mounting Technology: Surface Mount; Code_JEDEC: MO-187; ComponentLink1Description: Manufacturer URL; ComponentLink1URL: http://www.maximintegrated.com/; ComponentLink2Description: Datasheet; ComponentLink2URL: http://datasheets.maximintegrated.com/en/ds/MAX5403-MAX5405.pdf; ComponentLink3Description: Package Specification; ComponentLink3URL: http://pdfserv.maximintegrated.com/package_dwgs/21-0061.PDF
footprint MAXM-U10CN+1_N (SOP, 10-Leads, Body 3x3mm, Pitch 0.5mm, IPC Medium Density)
footprint MAXM-U10CN+1_L (SOP, 10-Leads, Body 3x3mm, Pitch 0.5mm, IPC High Density)
footprint MAXM-U10CN+1_M (SOP, 10-Leads, Body 3x3mm, Pitch 0.5mm, IPC Low Density)
pins: 1 GND (power) "Ground", 2 LB "Low Terminal of Resistor B", 3 HB "High Terminal of Resistor B", 4 WB "Wiper Terminal of Resistor B", 5 ~{CS} (in) "SPI Chip Select", 6 DIN (in) "SPI Serial Data Input", 7 SCLK (in) "SPI Clock Input", 8 VDD (power) "Power Supply, +2.7V to +5.5V. Connect a 0.1uF capacitor to GND.", 9 WA "Wiper Terminal of Resistor A", 10 LA "Low Terminal of Resistor A"

## MAX5403EUB+T
designator U?
Dual, Low Drift, Digital Potentiometers in 10-uMAX with 3-Wire Serial SPI Control Interface, Volatile, Linear Taper, 256 Steps, -40 to 85 degC, 10-pin uMAX (U10CN+1), Pb-Free, Tape and Reel; PartNumber: MAX5403EUB+T; DatasheetVersion: Rev. 2; PackageVersion: Rev. L, 07/2008; PackageReference: U10CN+1; PackageDescription: 10-Pin Micro-MAX, Thin Shrink Small-Outline (U10CN+1), Body 3 x 3 mm, Pitch 0.5 mm; Supplier 1: Digi-Key; Supplier Part Number 1: MAX5403EUB+T-ND; Supplier 2: Mouser; Supplier Part Number 2: 700-MAX5403EUBT; Control Interface: 3-Wire Serial SPI; Mounting Technology: Surface Mount; Code_JEDEC: MO-187; ComponentLink1Description: Manufacturer URL; ComponentLink1URL: http://www.maximintegrated.com/; ComponentLink2Description: Datasheet; ComponentLink2URL: http://datasheets.maximintegrated.com/en/ds/MAX5403-MAX5405.pdf; ComponentLink3Description: Package Specification; ComponentLink3URL: http://pdfserv.maximintegrated.com/package_dwgs/21-0061.PDF
footprint MAXM-U10CN+1_N (SOP, 10-Leads, Body 3x3mm, Pitch 0.5mm, IPC Medium Density)
footprint MAXM-U10CN+1_L (SOP, 10-Leads, Body 3x3mm, Pitch 0.5mm, IPC High Density)
footprint MAXM-U10CN+1_M (SOP, 10-Leads, Body 3x3mm, Pitch 0.5mm, IPC Low Density)
pins: 1 GND (power) "Ground", 2 LB "Low Terminal of Resistor B", 3 HB "High Terminal of Resistor B", 4 WB "Wiper Terminal of Resistor B", 5 ~{CS} (in) "SPI Chip Select", 6 DIN (in) "SPI Serial Data Input", 7 SCLK (in) "SPI Clock Input", 8 VDD (power) "Power Supply, +2.7V to +5.5V. Connect a 0.1uF capacitor to GND.", 9 WA "Wiper Terminal of Resistor A", 10 LA "Low Terminal of Resistor A"

## MAX5403EUB-T
designator U?
Dual, Low Drift, Digital Potentiometers in 10-uMAX with 3-Wire Serial SPI Control Interface, Volatile, Linear Taper, 256 Steps, -40 to 85 degC, 10-pin uMAX (U10CN-1), Tape and Reel; PartNumber: MAX5403EUB-T; DatasheetVersion: Rev. 2; PackageVersion: Rev. L, 07/2008; PackageReference: U10CN-1; PackageDescription: 10-Pin Micro-MAX, Thin Shrink Small-Outline (U10CN-1), Body 3 x 3 mm, Pitch 0.5 mm; Supplier 1: Mouser; Supplier Part Number 1: N/A; Control Interface: 3-Wire Serial SPI; Mounting Technology: Surface Mount; Code_JEDEC: MO-187; ComponentLink1Description: Manufacturer URL; ComponentLink1URL: http://www.maximintegrated.com/; ComponentLink2Description: Datasheet; ComponentLink2URL: http://datasheets.maximintegrated.com/en/ds/MAX5403-MAX5405.pdf; ComponentLink3Description: Package Specification; ComponentLink3URL: http://pdfserv.maximintegrated.com/package_dwgs/21-0061.PDF
footprint MAXM-U10CN-1_N (SOP, 10-Leads, Body 3x3mm, Pitch 0.5mm, IPC Medium Density)
footprint MAXM-U10CN-1_L (SOP, 10-Leads, Body 3x3mm, Pitch 0.5mm, IPC High Density)
footprint MAXM-U10CN-1_M (SOP, 10-Leads, Body 3x3mm, Pitch 0.5mm, IPC Low Density)
pins: 1 GND (power) "Ground", 2 LB "Low Terminal of Resistor B", 3 HB "High Terminal of Resistor B", 4 WB "Wiper Terminal of Resistor B", 5 ~{CS} (in) "SPI Chip Select", 6 DIN (in) "SPI Serial Data Input", 7 SCLK (in) "SPI Clock Input", 8 VDD (power) "Power Supply, +2.7V to +5.5V. Connect a 0.1uF capacitor to GND.", 9 WA "Wiper Terminal of Resistor A", 10 LA "Low Terminal of Resistor A"

## MAX5404EUB
designator U?
Dual, Low Drift, Digital Potentiometers in 10-uMAX with 3-Wire Serial SPI Control Interface, Volatile, Linear Taper, 256 Steps, -40 to 85 degC, 10-pin uMAX (U10CN-1); PartNumber: MAX5404EUB; DatasheetVersion: Rev. 2; PackageVersion: Rev. L, 07/2008; PackageReference: U10CN-1; PackageDescription: 10-Pin Micro-MAX, Thin Shrink Small-Outline (U10CN-1), Body 3 x 3 mm, Pitch 0.5 mm; Supplier 1: Digi-Key; Supplier Part Number 1: MAX5404EUB-ND; Supplier 2: Mouser; Supplier Part Number 2: N/A; Control Interface: 3-Wire Serial SPI; Mounting Technology: Surface Mount; Code_JEDEC: MO-187; ComponentLink1Description: Manufacturer URL; ComponentLink1URL: http://www.maximintegrated.com/; ComponentLink2Description: Datasheet; ComponentLink2URL: http://datasheets.maximintegrated.com/en/ds/MAX5403-MAX5405.pdf; ComponentLink3Description: Package Specification; ComponentLink3URL: http://pdfserv.maximintegrated.com/package_dwgs/21-0061.PDF
footprint MAXM-U10CN-1_N (SOP, 10-Leads, Body 3x3mm, Pitch 0.5mm, IPC Medium Density)
footprint MAXM-U10CN-1_L (SOP, 10-Leads, Body 3x3mm, Pitch 0.5mm, IPC High Density)
footprint MAXM-U10CN-1_M (SOP, 10-Leads, Body 3x3mm, Pitch 0.5mm, IPC Low Density)
pins: 1 GND (power) "Ground", 2 LB "Low Terminal of Resistor B", 3 HB "High Terminal of Resistor B", 4 WB "Wiper Terminal of Resistor B", 5 ~{CS} (in) "SPI Chip Select", 6 DIN (in) "SPI Serial Data Input", 7 SCLK (in) "SPI Clock Input", 8 VDD (power) "Power Supply, +2.7V to +5.5V. Connect a 0.1uF capacitor to GND.", 9 WA "Wiper Terminal of Resistor A", 10 LA "Low Terminal of Resistor A"

## MAX5404EUB+
designator U?
Dual, Low Drift, Digital Potentiometers in 10-uMAX with 3-Wire Serial SPI Control Interface, Volatile, Linear Taper, 256 Steps, -40 to 85 degC, 10-pin uMAX (U10CN+1), Pb-Free; PartNumber: MAX5404EUB+; DatasheetVersion: Rev. 2; PackageVersion: Rev. L, 07/2008; PackageReference: U10CN+1; PackageDescription: 10-Pin Micro-MAX, Thin Shrink Small-Outline (U10CN+1), Body 3 x 3 mm, Pitch 0.5 mm; Supplier 1: Digi-Key; Supplier Part Number 1: MAX5404EUB+-ND; Supplier 2: Mouser; Supplier Part Number 2: 700-MAX5404EUB; Control Interface: 3-Wire Serial SPI; Mounting Technology: Surface Mount; Code_JEDEC: MO-187; ComponentLink1Description: Manufacturer URL; ComponentLink1URL: http://www.maximintegrated.com/; ComponentLink2Description: Datasheet; ComponentLink2URL: http://datasheets.maximintegrated.com/en/ds/MAX5403-MAX5405.pdf; ComponentLink3Description: Package Specification; ComponentLink3URL: http://pdfserv.maximintegrated.com/package_dwgs/21-0061.PDF
footprint MAXM-U10CN+1_N (SOP, 10-Leads, Body 3x3mm, Pitch 0.5mm, IPC Medium Density)
footprint MAXM-U10CN+1_L (SOP, 10-Leads, Body 3x3mm, Pitch 0.5mm, IPC High Density)
footprint MAXM-U10CN+1_M (SOP, 10-Leads, Body 3x3mm, Pitch 0.5mm, IPC Low Density)
pins: 1 GND (power) "Ground", 2 LB "Low Terminal of Resistor B", 3 HB "High Terminal of Resistor B", 4 WB "Wiper Terminal of Resistor B", 5 ~{CS} (in) "SPI Chip Select", 6 DIN (in) "SPI Serial Data Input", 7 SCLK (in) "SPI Clock Input", 8 VDD (power) "Power Supply, +2.7V to +5.5V. Connect a 0.1uF capacitor to GND.", 9 WA "Wiper Terminal of Resistor A", 10 LA "Low Terminal of Resistor A"

## MAX5404EUB+T
designator U?
Dual, Low Drift, Digital Potentiometers in 10-uMAX with 3-Wire Serial SPI Control Interface, Volatile, Linear Taper, 256 Steps, -40 to 85 degC, 10-pin uMAX (U10CN+1), Pb-Free, Tape and Reel; PartNumber: MAX5404EUB+T; DatasheetVersion: Rev. 2; PackageVersion: Rev. L, 07/2008; PackageReference: U10CN+1; PackageDescription: 10-Pin Micro-MAX, Thin Shrink Small-Outline (U10CN+1), Body 3 x 3 mm, Pitch 0.5 mm; Supplier 1: Digi-Key; Supplier Part Number 1: MAX5404EUB+T-ND; Supplier 2: Mouser; Supplier Part Number 2: 700-MAX5404EUBT; Control Interface: 3-Wire Serial SPI; Mounting Technology: Surface Mount; Code_JEDEC: MO-187; ComponentLink1Description: Manufacturer URL; ComponentLink1URL: http://www.maximintegrated.com/; ComponentLink2Description: Datasheet; ComponentLink2URL: http://datasheets.maximintegrated.com/en/ds/MAX5403-MAX5405.pdf; ComponentLink3Description: Package Specification; ComponentLink3URL: http://pdfserv.maximintegrated.com/package_dwgs/21-0061.PDF
footprint MAXM-U10CN+1_N (SOP, 10-Leads, Body 3x3mm, Pitch 0.5mm, IPC Medium Density)
footprint MAXM-U10CN+1_L (SOP, 10-Leads, Body 3x3mm, Pitch 0.5mm, IPC High Density)
footprint MAXM-U10CN+1_M (SOP, 10-Leads, Body 3x3mm, Pitch 0.5mm, IPC Low Density)
pins: 1 GND (power) "Ground", 2 LB "Low Terminal of Resistor B", 3 HB "High Terminal of Resistor B", 4 WB "Wiper Terminal of Resistor B", 5 ~{CS} (in) "SPI Chip Select", 6 DIN (in) "SPI Serial Data Input", 7 SCLK (in) "SPI Clock Input", 8 VDD (power) "Power Supply, +2.7V to +5.5V. Connect a 0.1uF capacitor to GND.", 9 WA "Wiper Terminal of Resistor A", 10 LA "Low Terminal of Resistor A"